# Altium schematic symbol library XTAL_HC49SSDLF-8mHz..SchLib: 1 symbol
Pins are listed as number, name and electrical type; pins without a type are passive.

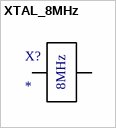
[diagram p0: symbol XTAL_8MHz]

## XTAL_8MHz
designator X?
footprint CAPC13550X20N (Chip Capacitor, 2-Leads, Body 13.50x5.00mm, IPC Medium Density)
pins: 1 Xtal 1, 2 Xtal  2
text: 8MHz